# EAGLE library part ARD_DIGITAL_2 (library EnigmaMon)
Arduino Digital Inputs Pin-header for Arduino digital I/O pins
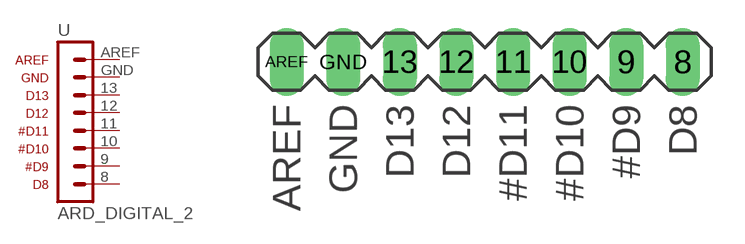
[diagram p2: symbol with the pads of ARD_DIGITAL_2; footprint ARD_DIGITAL_2]

Designator prefix -

## ARD_DIGITAL_2  [ARD_DIGITAL_2]
8  8  pas
9  9  pas
10  10  pas
11  11  pas
12  12  pas
13  13  pas
AREF  AREF  pas
GND  GND  pas

## Footprint ARD_DIGITAL_2 (pad centres in mm)
Arduino Digital Pins
drill 1.016 long: 8 8.89,0; 9 6.35,0; 10 3.81,0; 11 1.27,0; 12 -1.27,0; 13 -3.81,0; AREF -8.89,0; GND -6.35,0